# Altium footprint library molex_kk254_4pos_vert_0470531000.PcbLib: 1 footprints
Each footprint in its own frame and in the unit in brackets; x right, y up, seen from the top. Pads: shape width x height; smd on the part's side, far side on the other; paste and mask are expansions set on the pad; w line width, h text height; cw(c..) or ccw(c..) is an arc to the next point about the centre after c.
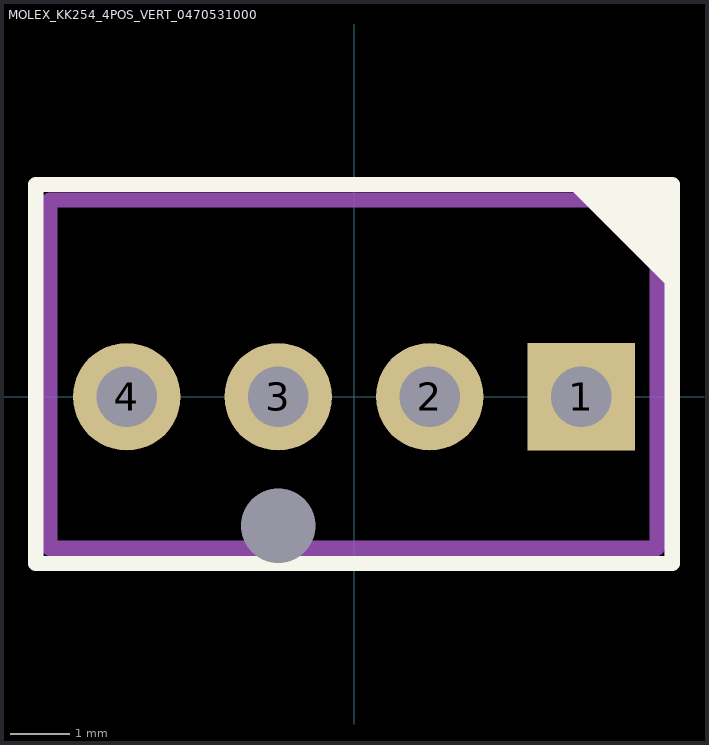
[diagram p0: the footprint, top view; thin cyan lines are the x and y axes]

## MOLEX_KK254_4POS_VERT_0470531000 [mm]
pads (5):
  rect 1.8x1.8 hole 1.02: 1(3.81,0)
  round 1.8 hole 1.02: 2(1.27,0) 3(-1.27,0) 4(-3.81,0)
  round 0 hole 1.25: 5(-1.27,-2.16)
Top Overlay:
  region: 5.334,3.556 3.556,3.556 5.334,1.778
  lines w0.254: -5.334,-2.794 5.334,-2.794 5.334,3.556 -5.334,3.556 -5.334,-2.794
Top 3D Body (Mech13):
  lines w0.254: -5.1,-2.54 5.08,-2.54 5.08,3.3 -5.1,3.3 -5.1,-2.54
Top Courtyard:
  region: 5.334,3.556 3.556,3.556 5.334,1.778
  lines w0.254: -5.334,-2.794 5.334,-2.794 5.334,3.556 -5.334,3.556 -5.334,-2.794
Top Designator:
  text ".Designator" at -2.337,-0.474 h1.02
3D body "470531000_colorized.step": height 10.01, standoff -3.49, extent -5.1,-2.54 5.1,3.3